# EAGLE library part STM32C011F4U6TR (library My_Library)
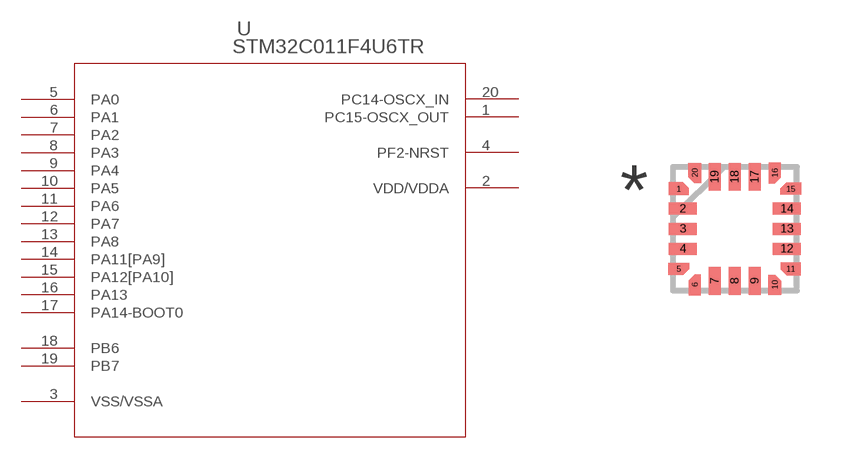
[diagram p29: symbol with the pads of UFQFPN20_3X3_STM; footprint UFQFPN20_3X3_STM]

Designator prefix U

## STM32C011F4U6TR (COPYRIGHT: Copyright (C) 2025 Ultra Librarian. All rights reserved.; MANUFACTURER_PART_NUMBER: STM32C011F4U6TR; MFR_NAME: STMicroelectronics)  [UFQFPN20_3X3_STM]
1  PC15-OSCX_OUT
2  VDD/VDDA  pwr
3  VSS/VSSA  pwr
4  PF2-NRST
5  PA0
6  PA1
7  PA2
8  PA3
9  PA4
10  PA5
11  PA6
12  PA7
13  PA8
14  PA11[PA9]
15  PA12[PA10]
16  PA13
17  PA14-BOOT0
18  PB6
19  PB7
20  PC14-OSCX_IN

## Footprint UFQFPN20_3X3_STM (pad centres in mm)
smd 0.127 x 0.127: 1 -1.4,1; 5 -1.4,-1; 6 -1,-1.4; 10 1,-1.4; 11 1.4,-1; 15 1.4,1; 16 1,1.4; 20 -1,1.4
smd 0.7 x 0.3: 2 -1.3,0.5; 3 -1.3,0; 4 -1.3,-0.5; 12 1.3,-0.5; 13 1.3,0; 14 1.3,0.5
smd 0.3 x 0.7: 7 -0.5,-1.3; 8 0,-1.3; 9 0.5,-1.3; 17 0.5,1.3; 18 0,1.3; 19 -0.5,1.3